# Altium footprint library QFP (~0.6mm Pitch, Square) - Corner Index.PcbLib: 20 footprints (part 2 of 2)
Each footprint in its own frame and in the unit in brackets; x right, y up, seen from the top. Pads: shape width x height; smd on the part's side, far side on the other; paste and mask are expansions set on the pad; w line width, h text height; cw(c..) or ccw(c..) is an arc to the next point about the centre after c.
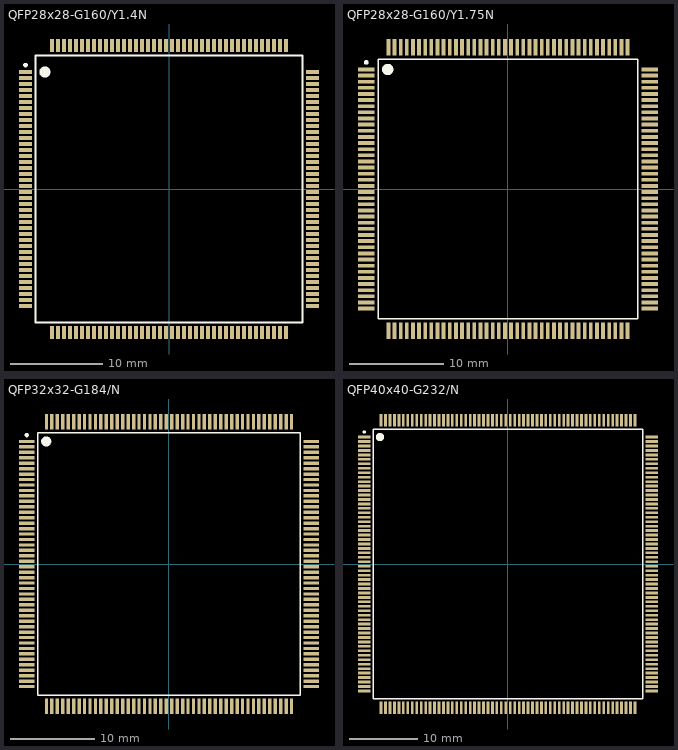
[diagram p1: the footprints below, top view; thin cyan lines are the x and y axes]

## QFP28x28-G160/Y1.4N [mm] "Ceramic QFP, Cavity Up; 160 Leads; Body 28 x 28 mm"
height 2.79
pads (160):
  rect 1.4x0.4 smd: 1(-15.55,12.675) 2(-15.55,12.025) 3(-15.55,11.375) 4(-15.55,10.725) 5(-15.55,10.075) 6(-15.55,9.425) 7(-15.55,8.775) 8(-15.55,8.125) 9(-15.55,7.475) 10(-15.55,6.825) 11(-15.55,6.175) 12(-15.55,5.525) 13(-15.55,4.875) 14(-15.55,4.225) 15(-15.55,3.575) 16(-15.55,2.925) 17(-15.55,2.275) 18(-15.55,1.625) 19(-15.55,0.975) 20(-15.55,0.325) 21(-15.55,-0.325) 22(-15.55,-0.975) 23(-15.55,-1.625) 24(-15.55,-2.275) 25(-15.55,-2.925) 26(-15.55,-3.575) 27(-15.55,-4.225) 28(-15.55,-4.875) 29(-15.55,-5.525) 30(-15.55,-6.175) 31(-15.55,-6.825) 32(-15.55,-7.475) 33(-15.55,-8.125) 34(-15.55,-8.775) 35(-15.55,-9.425) 36(-15.55,-10.075) 37(-15.55,-10.725) 38(-15.55,-11.375) 39(-15.55,-12.025) 40(-15.55,-12.675) 81(15.55,-12.675) 82(15.55,-12.025) 83(15.55,-11.375) 84(15.55,-10.725) 85(15.55,-10.075) 86(15.55,-9.425) 87(15.55,-8.775) 88(15.55,-8.125) 89(15.55,-7.475) 90(15.55,-6.825) 91(15.55,-6.175) 92(15.55,-5.525) 93(15.55,-4.875) 94(15.55,-4.225) 95(15.55,-3.575) 96(15.55,-2.925) 97(15.55,-2.275) 98(15.55,-1.625) 99(15.55,-0.975) 100(15.55,-0.325) 101(15.55,0.325) 102(15.55,0.975) 103(15.55,1.625) 104(15.55,2.275) 105(15.55,2.925) 106(15.55,3.575) 107(15.55,4.225) 108(15.55,4.875) 109(15.55,5.525) 110(15.55,6.175) 111(15.55,6.825) 112(15.55,7.475) 113(15.55,8.125) 114(15.55,8.775) 115(15.55,9.425) 116(15.55,10.075) 117(15.55,10.725) 118(15.55,11.375) 119(15.55,12.025) 120(15.55,12.675)
  rect 0.4x1.4 smd: 41(-12.675,-15.55) 42(-12.025,-15.55) 43(-11.375,-15.55) 44(-10.725,-15.55) 45(-10.075,-15.55) 46(-9.425,-15.55) 47(-8.775,-15.55) 48(-8.125,-15.55) 49(-7.475,-15.55) 50(-6.825,-15.55) 51(-6.175,-15.55) 52(-5.525,-15.55) 53(-4.875,-15.55) 54(-4.225,-15.55) 55(-3.575,-15.55) 56(-2.925,-15.55) 57(-2.275,-15.55) 58(-1.625,-15.55) 59(-0.975,-15.55) 60(-0.325,-15.55) 61(0.325,-15.55) 62(0.975,-15.55) 63(1.625,-15.55) 64(2.275,-15.55) 65(2.925,-15.55) 66(3.575,-15.55) 67(4.225,-15.55) 68(4.875,-15.55) 69(5.525,-15.55) 70(6.175,-15.55) 71(6.825,-15.55) 72(7.475,-15.55) 73(8.125,-15.55) 74(8.775,-15.55) 75(9.425,-15.55) 76(10.075,-15.55) 77(10.725,-15.55) 78(11.375,-15.55) 79(12.025,-15.55) 80(12.675,-15.55) 121(12.675,15.55) 122(12.025,15.55) 123(11.375,15.55) 124(10.725,15.55) 125(10.075,15.55) 126(9.425,15.55) 127(8.775,15.55) 128(8.125,15.55) 129(7.475,15.55) 130(6.825,15.55) 131(6.175,15.55) 132(5.525,15.55) 133(4.875,15.55) 134(4.225,15.55) 135(3.575,15.55) 136(2.925,15.55) 137(2.275,15.55) 138(1.625,15.55) 139(0.975,15.55) 140(0.325,15.55) 141(-0.325,15.55) 142(-0.975,15.55) 143(-1.625,15.55) 144(-2.275,15.55) 145(-2.925,15.55) 146(-3.575,15.55) 147(-4.225,15.55) 148(-4.875,15.55) 149(-5.525,15.55) 150(-6.175,15.55) 151(-6.825,15.55) 152(-7.475,15.55) 153(-8.125,15.55) 154(-8.775,15.55) 155(-9.425,15.55) 156(-10.075,15.55) 157(-10.725,15.55) 158(-11.375,15.55) 159(-12.025,15.55) 160(-12.675,15.55)
Top Overlay:
  circle w0.25: c-15.55,13.425 r0.125
  circle w0.6: c-13.45,12.675 r0.3
  lines w0.2: -14.45,-14.45 -14.45,14.45 14.45,14.45 14.45,-14.45 -14.45,-14.45

## QFP28x28-G160/Y1.75N [mm] "QFP; 160 Leads; Body 28 x 28 mm; Pitch 0.65 mm"
height 3.6
pads (160):
  rect 1.75x0.4 smd: 1(-15.025,12.675) 2(-15.025,12.025) 3(-15.025,11.375) 4(-15.025,10.725) 5(-15.025,10.075) 6(-15.025,9.425) 7(-15.025,8.775) 8(-15.025,8.125) 9(-15.025,7.475) 10(-15.025,6.825) 11(-15.025,6.175) 12(-15.025,5.525) 13(-15.025,4.875) 14(-15.025,4.225) 15(-15.025,3.575) 16(-15.025,2.925) 17(-15.025,2.275) 18(-15.025,1.625) 19(-15.025,0.975) 20(-15.025,0.325) 21(-15.025,-0.325) 22(-15.025,-0.975) 23(-15.025,-1.625) 24(-15.025,-2.275) 25(-15.025,-2.925) 26(-15.025,-3.575) 27(-15.025,-4.225) 28(-15.025,-4.875) 29(-15.025,-5.525) 30(-15.025,-6.175) 31(-15.025,-6.825) 32(-15.025,-7.475) 33(-15.025,-8.125) 34(-15.025,-8.775) 35(-15.025,-9.425) 36(-15.025,-10.075) 37(-15.025,-10.725) 38(-15.025,-11.375) 39(-15.025,-12.025) 40(-15.025,-12.675) 81(15.025,-12.675) 82(15.025,-12.025) 83(15.025,-11.375) 84(15.025,-10.725) 85(15.025,-10.075) 86(15.025,-9.425) 87(15.025,-8.775) 88(15.025,-8.125) 89(15.025,-7.475) 90(15.025,-6.825) 91(15.025,-6.175) 92(15.025,-5.525) 93(15.025,-4.875) 94(15.025,-4.225) 95(15.025,-3.575) 96(15.025,-2.925) 97(15.025,-2.275) 98(15.025,-1.625) 99(15.025,-0.975) 100(15.025,-0.325) 101(15.025,0.325) 102(15.025,0.975) 103(15.025,1.625) 104(15.025,2.275) 105(15.025,2.925) 106(15.025,3.575) 107(15.025,4.225) 108(15.025,4.875) 109(15.025,5.525) 110(15.025,6.175) 111(15.025,6.825) 112(15.025,7.475) 113(15.025,8.125) 114(15.025,8.775) 115(15.025,9.425) 116(15.025,10.075) 117(15.025,10.725) 118(15.025,11.375) 119(15.025,12.025) 120(15.025,12.675)
  rect 0.4x1.75 smd: 41(-12.675,-15.025) 42(-12.025,-15.025) 43(-11.375,-15.025) 44(-10.725,-15.025) 45(-10.075,-15.025) 46(-9.425,-15.025) 47(-8.775,-15.025) 48(-8.125,-15.025) 49(-7.475,-15.025) 50(-6.825,-15.025) 51(-6.175,-15.025) 52(-5.525,-15.025) 53(-4.875,-15.025) 54(-4.225,-15.025) 55(-3.575,-15.025) 56(-2.925,-15.025) 57(-2.275,-15.025) 58(-1.625,-15.025) 59(-0.975,-15.025) 60(-0.325,-15.025) 61(0.325,-15.025) 62(0.975,-15.025) 63(1.625,-15.025) 64(2.275,-15.025) 65(2.925,-15.025) 66(3.575,-15.025) 67(4.225,-15.025) 68(4.875,-15.025) 69(5.525,-15.025) 70(6.175,-15.025) 71(6.825,-15.025) 72(7.475,-15.025) 73(8.125,-15.025) 74(8.775,-15.025) 75(9.425,-15.025) 76(10.075,-15.025) 77(10.725,-15.025) 78(11.375,-15.025) 79(12.025,-15.025) 80(12.675,-15.025) 121(12.675,15.025) 122(12.025,15.025) 123(11.375,15.025) 124(10.725,15.025) 125(10.075,15.025) 126(9.425,15.025) 127(8.775,15.025) 128(8.125,15.025) 129(7.475,15.025) 130(6.825,15.025) 131(6.175,15.025) 132(5.525,15.025) 133(4.875,15.025) 134(4.225,15.025) 135(3.575,15.025) 136(2.925,15.025) 137(2.275,15.025) 138(1.625,15.025) 139(0.975,15.025) 140(0.325,15.025) 141(-0.325,15.025) 142(-0.975,15.025) 143(-1.625,15.025) 144(-2.275,15.025) 145(-2.925,15.025) 146(-3.575,15.025) 147(-4.225,15.025) 148(-4.875,15.025) 149(-5.525,15.025) 150(-6.175,15.025) 151(-6.825,15.025) 152(-7.475,15.025) 153(-8.125,15.025) 154(-8.775,15.025) 155(-9.425,15.025) 156(-10.075,15.025) 157(-10.725,15.025) 158(-11.375,15.025) 159(-12.025,15.025) 160(-12.675,15.025)
Top Overlay:
  circle w0.6: c-12.75,12.675 r0.3
  circle w0.25: c-15.025,13.425 r0.125
  lines w0.2: -13.75,-13.75 13.75,-13.75 13.75,13.75 -13.75,13.75 -13.75,-13.75

## QFP32x32-G184/N [mm] "QFP; 184 Leads; Body 32 x 32 mm; Pitch 0.65 mm"
height 4.2
pads (184):
  rect 1.85x0.4 smd: 1(-16.975,14.625) 2(-16.975,13.975) 3(-16.975,13.325) 4(-16.975,12.675) 5(-16.975,12.025) 6(-16.975,11.375) 7(-16.975,10.725) 8(-16.975,10.075) 9(-16.975,9.425) 10(-16.975,8.775) 11(-16.975,8.125) 12(-16.975,7.475) 13(-16.975,6.825) 14(-16.975,6.175) 15(-16.975,5.525) 16(-16.975,4.875) 17(-16.975,4.225) 18(-16.975,3.575) 19(-16.975,2.925) 20(-16.975,2.275) 21(-16.975,1.625) 22(-16.975,0.975) 23(-16.975,0.325) 24(-16.975,-0.325) 25(-16.975,-0.975) 26(-16.975,-1.625) 27(-16.975,-2.275) 28(-16.975,-2.925) 29(-16.975,-3.575) 30(-16.975,-4.225) 31(-16.975,-4.875) 32(-16.975,-5.525) 33(-16.975,-6.175) 34(-16.975,-6.825) 35(-16.975,-7.475) 36(-16.975,-8.125) 37(-16.975,-8.775) 38(-16.975,-9.425) 39(-16.975,-10.075) 40(-16.975,-10.725) 41(-16.975,-11.375) 42(-16.975,-12.025) 43(-16.975,-12.675) 44(-16.975,-13.325) 45(-16.975,-13.975) 46(-16.975,-14.625) 93(16.975,-14.625) 94(16.975,-13.975) 95(16.975,-13.325) 96(16.975,-12.675) 97(16.975,-12.025) 98(16.975,-11.375) 99(16.975,-10.725) 100(16.975,-10.075) 101(16.975,-9.425) 102(16.975,-8.775) 103(16.975,-8.125) 104(16.975,-7.475) 105(16.975,-6.825) 106(16.975,-6.175) 107(16.975,-5.525) 108(16.975,-4.875) 109(16.975,-4.225) 110(16.975,-3.575) 111(16.975,-2.925) 112(16.975,-2.275) 113(16.975,-1.625) 114(16.975,-0.975) 115(16.975,-0.325) 116(16.975,0.325) 117(16.975,0.975) 118(16.975,1.625) 119(16.975,2.275) 120(16.975,2.925) 121(16.975,3.575) 122(16.975,4.225) 123(16.975,4.875) 124(16.975,5.525) 125(16.975,6.175) 126(16.975,6.825) 127(16.975,7.475) 128(16.975,8.125) 129(16.975,8.775) 130(16.975,9.425) 131(16.975,10.075) 132(16.975,10.725) 133(16.975,11.375) 134(16.975,12.025) 135(16.975,12.675) 136(16.975,13.325) 137(16.975,13.975) 138(16.975,14.625)
  rect 0.4x1.85 smd: 47(-14.625,-16.975) 48(-13.975,-16.975) 49(-13.325,-16.975) 50(-12.675,-16.975) 51(-12.025,-16.975) 52(-11.375,-16.975) 53(-10.725,-16.975) 54(-10.075,-16.975) 55(-9.425,-16.975) 56(-8.775,-16.975) 57(-8.125,-16.975) 58(-7.475,-16.975) 59(-6.825,-16.975) 60(-6.175,-16.975) 61(-5.525,-16.975) 62(-4.875,-16.975) 63(-4.225,-16.975) 64(-3.575,-16.975) 65(-2.925,-16.975) 66(-2.275,-16.975) 67(-1.625,-16.975) 68(-0.975,-16.975) 69(-0.325,-16.975) 70(0.325,-16.975) 71(0.975,-16.975) 72(1.625,-16.975) 73(2.275,-16.975) 74(2.925,-16.975) 75(3.575,-16.975) 76(4.225,-16.975) 77(4.875,-16.975) 78(5.525,-16.975) 79(6.175,-16.975) 80(6.825,-16.975) 81(7.475,-16.975) 82(8.125,-16.975) 83(8.775,-16.975) 84(9.425,-16.975) 85(10.075,-16.975) 86(10.725,-16.975) 87(11.375,-16.975) 88(12.025,-16.975) 89(12.675,-16.975) 90(13.325,-16.975) 91(13.975,-16.975) 92(14.625,-16.975) 139(14.625,16.975) 140(13.975,16.975) 141(13.325,16.975) 142(12.675,16.975) 143(12.025,16.975) 144(11.375,16.975) 145(10.725,16.975) 146(10.075,16.975) 147(9.425,16.975) 148(8.775,16.975) 149(8.125,16.975) 150(7.475,16.975) 151(6.825,16.975) 152(6.175,16.975) 153(5.525,16.975) 154(4.875,16.975) 155(4.225,16.975) 156(3.575,16.975) 157(2.925,16.975) 158(2.275,16.975) 159(1.625,16.975) 160(0.975,16.975) 161(0.325,16.975) 162(-0.325,16.975) 163(-0.975,16.975) 164(-1.625,16.975) 165(-2.275,16.975) 166(-2.925,16.975) 167(-3.575,16.975) 168(-4.225,16.975) 169(-4.875,16.975) 170(-5.525,16.975) 171(-6.175,16.975) 172(-6.825,16.975) 173(-7.475,16.975) 174(-8.125,16.975) 175(-8.775,16.975) 176(-9.425,16.975) 177(-10.075,16.975) 178(-10.725,16.975) 179(-11.375,16.975) 180(-12.025,16.975) 181(-12.675,16.975) 182(-13.325,16.975) 183(-13.975,16.975) 184(-14.625,16.975)
Top Overlay:
  circle w0.25: c-16.975,15.375 r0.125
  circle w0.6: c-14.65,14.625 r0.3
  lines w0.2: -15.65,-15.65 15.65,-15.65 15.65,15.65 -15.65,15.65 -15.65,-15.65

## QFP40x40-G232/N [mm] "QFP; 232 Leads; Body 40 x 40 mm; Pitch 0.65 mm"
height 4.2
pads (232):
  rect 1.8x0.4 smd: 1(-21,18.525) 2(-21,17.875) 3(-21,17.225) 4(-21,16.575) 5(-21,15.925) 6(-21,15.275) 7(-21,14.625) 8(-21,13.975) 9(-21,13.325) 10(-21,12.675) 11(-21,12.025) 12(-21,11.375) 13(-21,10.725) 14(-21,10.075) 15(-21,9.425) 16(-21,8.775) 17(-21,8.125) 18(-21,7.475) 19(-21,6.825) 20(-21,6.175) 21(-21,5.525) 22(-21,4.875) 23(-21,4.225) 24(-21,3.575) 25(-21,2.925) 26(-21,2.275) 27(-21,1.625) 28(-21,0.975) 29(-21,0.325) 30(-21,-0.325) 31(-21,-0.975) 32(-21,-1.625) 33(-21,-2.275) 34(-21,-2.925) 35(-21,-3.575) 36(-21,-4.225) 37(-21,-4.875) 38(-21,-5.525) 39(-21,-6.175) 40(-21,-6.825) 41(-21,-7.475) 42(-21,-8.125) 43(-21,-8.775) 44(-21,-9.425) 45(-21,-10.075) 46(-21,-10.725) 47(-21,-11.375) 48(-21,-12.025) 49(-21,-12.675) 50(-21,-13.325) 51(-21,-13.975) 52(-21,-14.625) 53(-21,-15.275) 54(-21,-15.925) 55(-21,-16.575) 56(-21,-17.225) 57(-21,-17.875) 58(-21,-18.525) 117(21,-18.525) 118(21,-17.875) 119(21,-17.225) 120(21,-16.575) 121(21,-15.925) 122(21,-15.275) 123(21,-14.625) 124(21,-13.975) 125(21,-13.325) 126(21,-12.675) 127(21,-12.025) 128(21,-11.375) 129(21,-10.725) 130(21,-10.075) 131(21,-9.425) 132(21,-8.775) 133(21,-8.125) 134(21,-7.475) 135(21,-6.825) 136(21,-6.175) 137(21,-5.525) 138(21,-4.875) 139(21,-4.225) 140(21,-3.575) 141(21,-2.925) 142(21,-2.275) 143(21,-1.625) 144(21,-0.975) 145(21,-0.325) 146(21,0.325) 147(21,0.975) 148(21,1.625) 149(21,2.275) 150(21,2.925) 151(21,3.575) 152(21,4.225) 153(21,4.875) 154(21,5.525) 155(21,6.175) 156(21,6.825) 157(21,7.475) 158(21,8.125) 159(21,8.775) 160(21,9.425) 161(21,10.075) 162(21,10.725) 163(21,11.375) 164(21,12.025) 165(21,12.675) 166(21,13.325) 167(21,13.975) 168(21,14.625) 169(21,15.275) 170(21,15.925) 171(21,16.575) 172(21,17.225) 173(21,17.875) 174(21,18.525)
  rect 0.4x1.8 smd: 59(-18.525,-21) 60(-17.875,-21) 61(-17.225,-21) 62(-16.575,-21) 63(-15.925,-21) 64(-15.275,-21) 65(-14.625,-21) 66(-13.975,-21) 67(-13.325,-21) 68(-12.675,-21) 69(-12.025,-21) 70(-11.375,-21) 71(-10.725,-21) 72(-10.075,-21) 73(-9.425,-21) 74(-8.775,-21) 75(-8.125,-21) 76(-7.475,-21) 77(-6.825,-21) 78(-6.175,-21) 79(-5.525,-21) 80(-4.875,-21) 81(-4.225,-21) 82(-3.575,-21) 83(-2.925,-21) 84(-2.275,-21) 85(-1.625,-21) 86(-0.975,-21) 87(-0.325,-21) 88(0.325,-21) 89(0.975,-21) 90(1.625,-21) 91(2.275,-21) 92(2.925,-21) 93(3.575,-21) 94(4.225,-21) 95(4.875,-21) 96(5.525,-21) 97(6.175,-21) 98(6.825,-21) 99(7.475,-21) 100(8.125,-21) 101(8.775,-21) 102(9.425,-21) 103(10.075,-21) 104(10.725,-21) 105(11.375,-21) 106(12.025,-21) 107(12.675,-21) 108(13.325,-21) 109(13.975,-21) 110(14.625,-21) 111(15.275,-21) 112(15.925,-21) 113(16.575,-21) 114(17.225,-21) 115(17.875,-21) 116(18.525,-21) 175(18.525,21) 176(17.875,21) 177(17.225,21) 178(16.575,21) 179(15.925,21) 180(15.275,21) 181(14.625,21) 182(13.975,21) 183(13.325,21) 184(12.675,21) 185(12.025,21) 186(11.375,21) 187(10.725,21) 188(10.075,21) 189(9.425,21) 190(8.775,21) 191(8.125,21) 192(7.475,21) 193(6.825,21) 194(6.175,21) 195(5.525,21) 196(4.875,21) 197(4.225,21) 198(3.575,21) 199(2.925,21) 200(2.275,21) 201(1.625,21) 202(0.975,21) 203(0.325,21) 204(-0.325,21) 205(-0.975,21) 206(-1.625,21) 207(-2.275,21) 208(-2.925,21) 209(-3.575,21) 210(-4.225,21) 211(-4.875,21) 212(-5.525,21) 213(-6.175,21) 214(-6.825,21) 215(-7.475,21) 216(-8.125,21) 217(-8.775,21) 218(-9.425,21) 219(-10.075,21) 220(-10.725,21) 221(-11.375,21) 222(-12.025,21) 223(-12.675,21) 224(-13.325,21) 225(-13.975,21) 226(-14.625,21) 227(-15.275,21) 228(-15.925,21) 229(-16.575,21) 230(-17.225,21) 231(-17.875,21) 232(-18.525,21)
Top Overlay:
  circle w0.25: c-21,19.275 r0.125
  circle w0.6: c-18.7,18.525 r0.3
  lines w0.2: -19.7,-19.7 19.7,-19.7 19.7,19.7 -19.7,19.7 -19.7,-19.7